# Altium schematic symbol library SCH_Converter.SchLib: 15 symbols
Pins are listed as number, name and electrical type; pins without a type are passive.

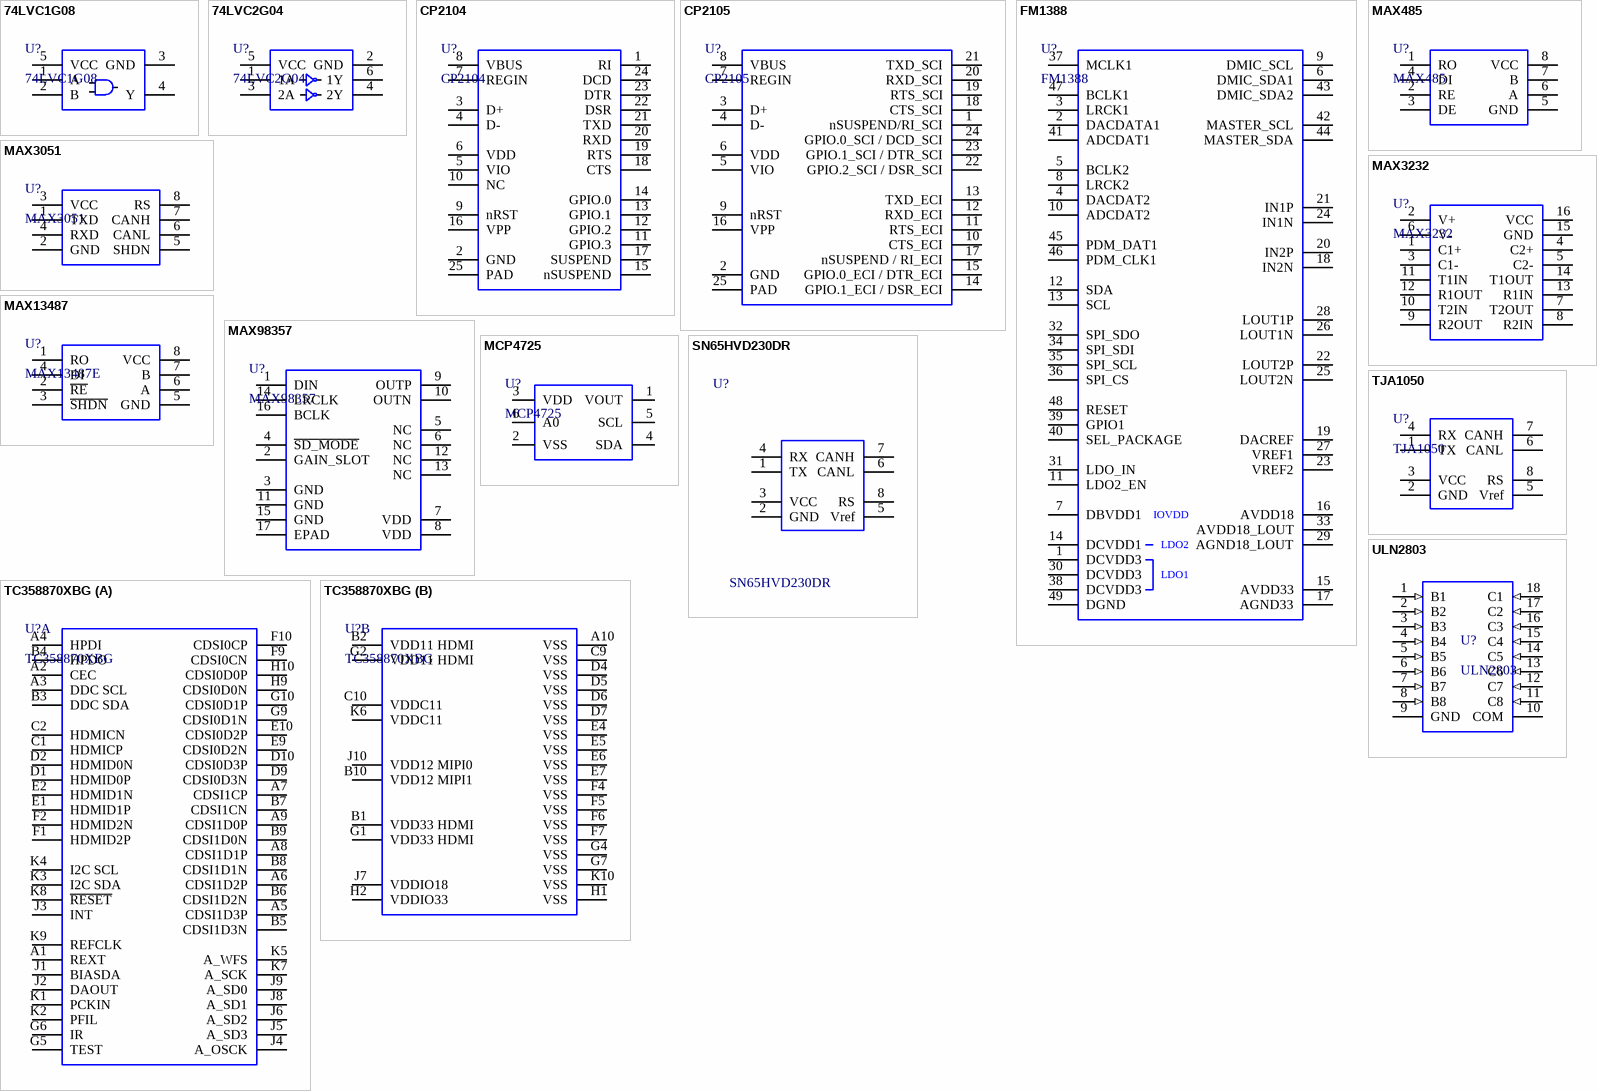
[diagram p0: symbols 74LVC1G08 to ULN2803]

## 74LVC1G08
designator U?
1通道与门
footprint SOT-23-5
pins: 1 A, 2 B, 3 GND, 4 Y, 5 VCC

## 74LVC2G04
designator U?
2通道非门
footprint SOT-23-6
pins: 1 1A, 2 GND, 3 2A, 4 2Y, 5 VCC, 6 1Y

## CP2104
designator U?
SINGLE-CHIP USB-TO-UART BRIDGE
footprint QFN-24-4.0X4.0-P0.5 (QFN, 24-Leads, Body 4.00x4.00mm, Pitch 0.50mm, Thermal Pad 2.70x2.60mm, IPC Medium Density)
pins: 1 RI, 2 GND, 3 D+, 4 D-, 5 VIO, 6 VDD, 7 REGIN, 8 VBUS, 9 nRST, 10 NC, 11 GPIO.3, 12 GPIO.2, 13 GPIO.1, 14 GPIO.0, 15 nSUSPEND, 16 VPP, 17 SUSPEND, 18 CTS, 19 RTS, 20 RXD, 21 TXD, 22 DSR, 23 DTR, 24 DCD, 25 PAD

## CP2105
designator U?
Single-Chip USB to Dual UART Data Transfer
footprint QFN-24-4.0X4.0-P0.5 (QFN, 24-Leads, Body 4.00x4.00mm, Pitch 0.50mm, Thermal Pad 2.70x2.60mm, IPC Medium Density)
pins: 1 nSUSPEND/RI_SCI, 2 GND, 3 D+, 4 D-, 5 VIO, 6 VDD, 7 REGIN, 8 VBUS, 9 nRST, 10 CTS_ECI, 11 RTS_ECI, 12 RXD_ECI, 13 TXD_ECI, 14 GPIO.1_ECI / DSR_ECI, 15 GPIO.0_ECI / DTR_ECI, 16 VPP, 17 nSUSPEND / RI_ECI, 18 CTS_SCI, 19 RTS_SCI, 20 RXD_SCI, 21 TXD_SCI, 22 GPIO.2_SCI / DSR_SCI, 23 GPIO.1_SCI / DTR_SCI, 24 GPIO.0_SCI / DCD_SCI, 25 PAD

## FM1388
designator U?
FM-1388 is Fortemedia’s next-generation voice processor specifically designed for automotive applications.
footprint TQFP-48-P0.5
pins: 1 DCVDD3, 2 DACDATA1, 3 LRCK1, 4 DACDAT2, 5 BCLK2, 6 DMIC_SDA1, 7 DBVDD1, 8 LRCK2, 9 DMIC_SCL, 10 ADCDAT2, 11 LDO2_EN, 12 SDA, 13 SCL, 14 DCVDD1, 15 AVDD33, 16 AVDD18, 17 AGND33, 18 IN2N, 19 DACREF, 20 IN2P, 21 IN1P, 22 LOUT2P, 23 VREF2, 24 IN1N, 25 LOUT2N, 26 LOUT1N, 27 VREF1, 28 LOUT1P, 29 AGND18_LOUT, 30 DCVDD3, 31 LDO_IN, 32 SPI_SDO, 33 AVDD18_LOUT, 34 SPI_SDI, 35 SPI_SCL, 36 SPI_CS, 37 MCLK1, 38 DCVDD3, 39 GPIO1, 40 SEL_PACKAGE, 41 ADCDAT1, 42 MASTER_SCL, 43 DMIC_SDA2, 44 MASTER_SDA, 45 PDM_DAT1, 46 PDM_CLK1, 47 BCLK1, 48 RESET, 49 DGND
text: IOVDD; LDO2; LDO1

## MAX485
designator U?
footprint SOP-8-P1.27
pins: 1 RO, 2 RE, 3 DE, 4 DI, 5 GND, 6 A, 7 B, 8 VCC

## MAX3051
designator U?
CAN控制器
footprint SOT-23-8
pins: 1 TXD, 2 GND, 3 VCC, 4 RXD, 5 SHDN, 6 CANL, 7 CANH, 8 RS

## MAX3232
designator U?
RS232
footprint TSSOP-16-P0.65
footprint SOP-16-P1.27
pins: 1 C1+, 2 V+, 3 C1-, 4 C2+, 5 C2-, 6 V-, 7 T2OUT, 8 R2IN, 9 R2OUT, 10 T2IN, 11 T1IN, 12 R1OUT, 13 R1IN, 14 T1OUT, 15 GND, 16 VCC

## MAX13487
designator U?, comment MAX13487E
Half-Duplex RS-485-/RS-422-Compatible Transceiver with AutoDirection Control
footprint SOP-8-P1.27
pins: 1 RO, 2 ~{RE}, 3 ~{SHDN}, 4 DI, 5 GND, 6 A, 7 B, 8 VCC

## MAX98357
designator U?
Tiny, Low-Cost, PCM Class D Amplifier with Class AB Performance
footprint QFN-16-3.0X3.0-P0.5 (PQFN, 16-Leads, Body 3.00x3.00mm, Pitch 0.50mm, Thermal Pad 1.50x1.50mm, IPC Medium Density)
pins: 1 DIN, 2 GAIN_SLOT, 3 GND, 4 ~{SD_MODE}, 5 NC, 6 NC, 7 VDD, 8 VDD, 9 OUTP, 10 OUTN, 11 GND, 12 NC, 13 NC, 14 LRCLK, 15 GND, 16 BCLK, 17 EPAD

## MCP4725
designator U?
I2C 12bit DAC
footprint SOT-23-6
pins: 1 VOUT, 2 VSS, 3 VDD, 4 SDA, 5 SCL, 6 A0

## SN65HVD230DR
designator U?
CAN芯片
footprint SOP-8-P1.27
pins: 1 TX, 2 GND, 3 VCC, 4 RX, 5 Vref, 6 CANL, 7 CANH, 8 RS

## TC358870XBG
designator U?
HDMI® 1.4b to MIPI® DSI℠ 1.1 / HDMI® Video format: Up to 4K Ultra HD (3840x2160, 30 fps, 24 bpp)
footprint VFBGA-80-7.0x7.0-P0.65
part A pins: A1 REXT, A2 CEC, A3 DDC SCL, A4 HPDI, A5 CDSI1D3P, A6 CDSI1D2P, A7 CDSI1CP, A8 CDSI1D1P, A9 CDSI1D0P, B3 DDC SDA, B4 HPDO, B5 CDSI1D3N, B6 CDSI1D2N, B7 CDSI1CN, B8 CDSI1D1N, B9 CDSI1D0N, C1 HDMICP, C2 HDMICN, D1 HDMID0P, D2 HDMID0N, D9 CDSI0D3N, D10 CDSI0D3P, E1 HDMID1P, E2 HDMID1N, E9 CDSI0D2N, E10 CDSI0D2P, F1 HDMID2P, F2 HDMID2N, F9 CDSI0CN, F10 CDSI0CP, G5 TEST, G6 IR, G9 CDSI0D1N, G10 CDSI0D1P, H9 CDSI0D0N, H10 CDSI0D0P, J1 BIASDA, J2 DAOUT, J3 INT, J4 A_OSCK, J5 A_SD3, J6 A_SD2, J8 A_SD1, J9 A_SD0, K1 PCKIN, K2 PFIL, K3 I2C SDA, K4 I2C SCL, K5 A_WFS, K7 A_SCK, K8 ~{RESET}, K9 REFCLK
part B pins: A10 VSS, B1 VDD33 HDMI, B2 VDD11 HDMI, B10 VDD12 MIPI1, C9 VSS, C10 VDDC11, D4 VSS, D5 VSS, D6 VSS, D7 VSS, E4 VSS, E5 VSS, E6 VSS, E7 VSS, F4 VSS, F5 VSS, F6 VSS, F7 VSS, G1 VDD33 HDMI, G2 VDD11 HDMI, G4 VSS, G7 VSS, H1 VSS, H2 VDDIO33, J7 VDDIO18, J10 VDD12 MIPI0, K6 VDDC11, K10 VSS

## TJA1050
designator U?
CAN控制器
footprint SOP-8-P1.27
pins: 1 TX, 2 GND, 3 VCC, 4 RX, 5 Vref, 6 CANL, 7 CANH, 8 RS

## ULN2803
designator U?
footprint SOWIC_18
pins: 1 B1 (in), 2 B2 (in), 3 B3 (in), 4 B4 (in), 5 B5 (in), 6 B6 (in), 7 B7 (in), 8 B8 (in), 9 GND, 10 COM, 11 C8 (in), 12 C7 (in), 13 C6 (in), 14 C5 (in), 15 C4 (in), 16 C3 (in), 17 C2 (in), 18 C1 (in)